# Altium integrated library sensor.IntLib: 8 symbols
Pins are listed as number, name and electrical type; pins without a type are passive.

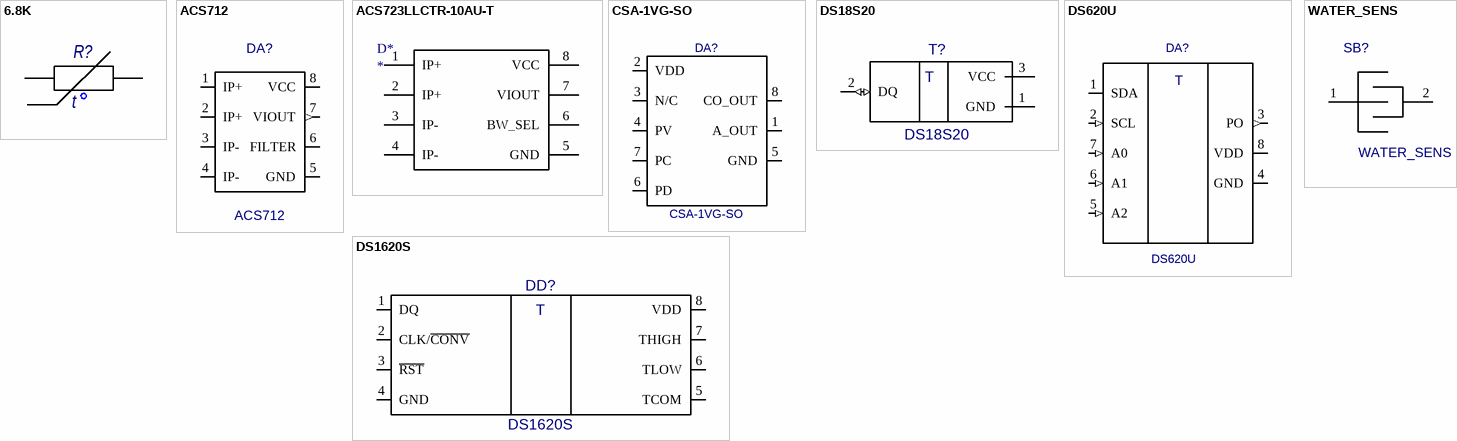
[diagram p0: symbols 6.8K to WATER_SENS]

## 6.8K
designator R?  (value not drawn)
Pack: {Pack}; Power: {Power}; Prec: {Prec}; Term: {Term}; Value: {Value}
footprint 6.8K
footprint Therm_0603
footprint 6.8K - angle90
pins: 1 A, 2 B
text: t

## ACS712
designator DA?
Value: *
footprint SOIC-8
pins: 1 IP+, 2 IP+, 3 IP-, 4 IP-, 5 GND (power), 6 FILTER, 7 VIOUT (out), 8 VCC (power)

## ACS723LLCTR-10AU-T
designator D*
footprint SOIC-8
pins: 1 IP+, 2 IP+, 3 IP-, 4 IP-, 5 GND, 6 BW_SEL, 7 VIOUT, 8 VCC

## CSA-1VG-SO
designator DA?
Value: *
footprint SO-8 (ARROW)
pins: 1 A_OUT, 2 VDD, 3 N/C, 4 PV, 5 GND, 6 PD, 7 PC, 8 CO_OUT

## DS18S20
designator T?
Value: *
footprint TO-92A_DS18S20(Primary)
footprint TO-92A_DS18S20(Second)
pins: 1 GND (power), 2 DQ (io), 3 VCC (power)
text: T

## DS620U
designator DA?
Value: *
footprint USOP-8
pins: 1 SDA (io), 2 SCL (in), 3 PO (out), 4 GND (power), 5 A2 (in), 6 A1 (in), 7 A0 (in), 8 VDD (power)
text: T

## DS1620S
designator DD?
Value: *
footprint 8S2
pins: 1 DQ, 2 CLK/~{CONV}, 3 ~{RST}, 4 GND, 5 TCOM, 6 TLOW, 7 THIGH, 8 VDD
text: T

## WATER_SENS
designator SB?
Value: *
footprint WATER_SENS
pins: 1, 2